# Altium footprint library LAN Transceivers.PcbLib: 1 footprints
Each footprint in its own frame and in the unit in brackets; x right, y up, seen from the top. Pads: shape width x height; smd on the part's side, far side on the other; paste and mask are expansions set on the pad; w line width, h text height; cw(c..) or ccw(c..) is an arc to the next point about the centre after c.
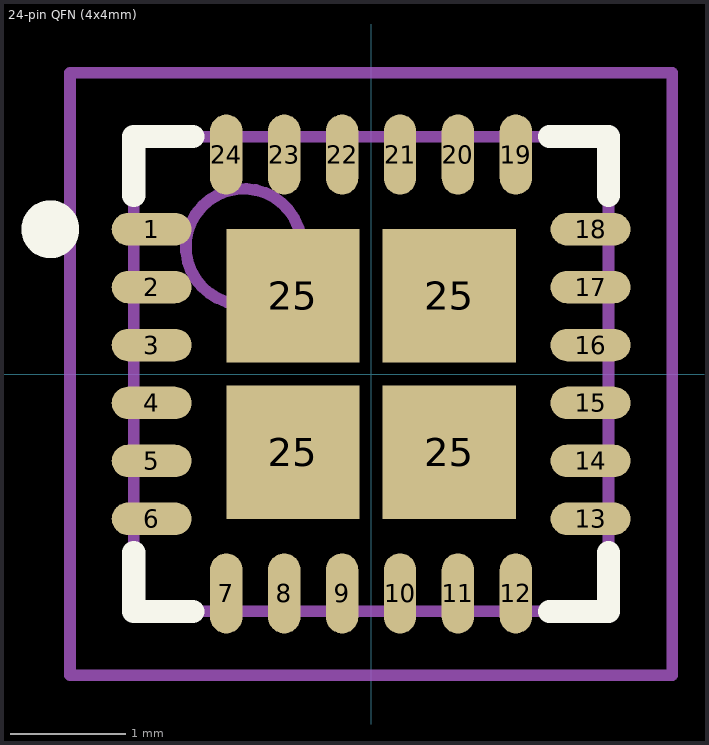
[diagram p0: the footprint, top view; thin cyan lines are the x and y axes]

## 24-pin QFN (4x4mm) [mm] "QFN, 24-Leads, Body 4,1x4,1mm (max), Pitch 0,50mm, IPC Medium Density"
height 1
pads (28):
  oval 0.69x0.28 smd: 1(-1.895,1.25) 2(-1.895,0.75) 3(-1.895,0.25) 4(-1.895,-0.25) 5(-1.895,-0.75) 6(-1.895,-1.25) 13(1.895,-1.25) 14(1.895,-0.75) 15(1.895,-0.25) 16(1.895,0.25) 17(1.895,0.75) 18(1.895,1.25)
  oval 0.28x0.69 smd: 7(-1.25,-1.895) 8(-0.75,-1.895) 9(-0.25,-1.895) 10(0.25,-1.895) 11(0.75,-1.895) 12(1.25,-1.895) 19(1.25,1.895) 20(0.75,1.895) 21(0.25,1.895) 22(-0.25,1.895) 23(-0.75,1.895) 24(-1.25,1.895)
  rect 1.15x1.15 smd: 25(-0.675,-0.675) 25(-0.675,0.675) 25(0.675,-0.675) 25(0.675,0.675)
Top Overlay:
  circle w0.25: c-2.77,1.25 r0.125
  lines w0.2: -2.05,-1.54 -2.05,-2.05 -1.54,-2.05 ; -2.05,1.54 -2.05,2.05 -1.54,2.05 ; 1.54,-2.05 2.05,-2.05 2.05,-1.54 ; 1.54,2.05 2.05,2.05 2.05,1.54
Mechanical 13:
  circle w0.1: c-1.1,1.1 r0.5
  lines w0.1: -2.05,-2.05 2.05,-2.05 2.05,2.05 -2.05,2.05 -2.05,-2.05
Mechanical 15:
  lines w0.1: -2.6,-2.6 2.6,-2.6 2.6,2.6 -2.6,2.6 -2.6,-2.6
3D body: height 1, standoff 0, extent -2.05,-2.05 2.05,2.05